# Altium footprint library WR-RAST.PcbLib: 34 footprints (part 1 of 3)
Each footprint in its own frame and in the unit in brackets; x right, y up, seen from the top. Pads: shape width x height; smd on the part's side, far side on the other; paste and mask are expansions set on the pad; w line width, h text height; cw(c..) or ccw(c..) is an arc to the next point about the centre after c.
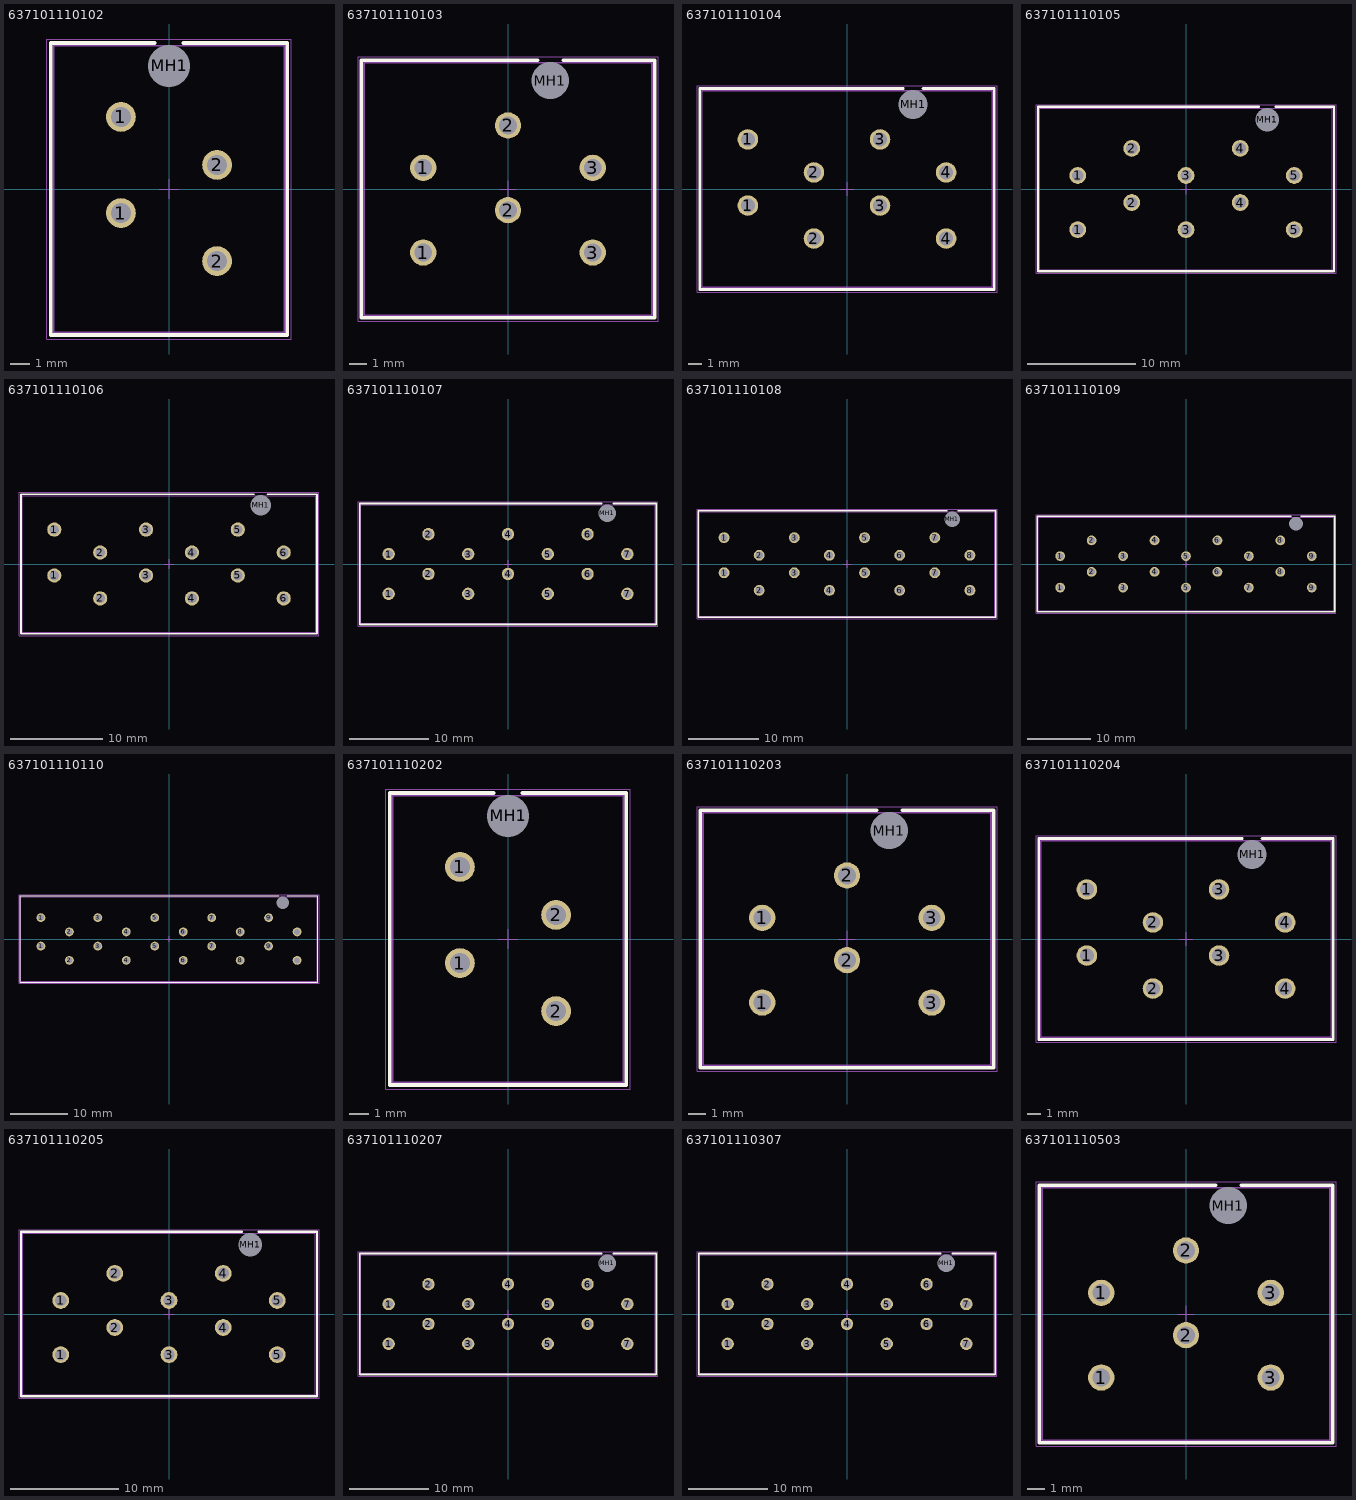
[diagram p0: the footprints below, top view; thin cyan lines are the x and y axes]

## 637101110102 [mm] "THT Vertical Male Header, pitch 5mm, 2p"
height 12.8
pads (5):
  round 1.55 hole 1.05: 1(-2.5,-1.25) 1(-2.5,3.75) 2(2.5,-3.75) 2(2.5,1.25)
  round 2 hole 2.2 unplated: MH1(0,6.4)
Top Overlay:
  lines w0.2: -0.75,7.6 -6.15,7.6 -6.15,-7.6 6.15,-7.6 6.15,7.6 0.75,7.6
Top Component Outline:
  lines w0.1: -6,-7.45 -6,7.45 6,7.45 6,-7.45 -6,-7.45
Top Courtyard:
  lines w0.05: -6.35,-7.8 -6.35,7.8 6.35,7.8 6.35,-7.8 -6.35,-7.8
Top Component Center:
  lines w0.05: -0.5,0 0.5,0 ; 0,-0.5 0,0.5
Top Designator (Mech19):
  text ".Designator" at -7.498,-0.5 h1.5
3D body "637101110102.stp": height 12.85, standoff -3.55, extent -6,-7.45 6,7.45

## 637101110103 [mm] "THT Vertical Male Header, pitch 5mm, 3p"
height 12.8
pads (7):
  round 1.55 hole 1.05: 1(-5,-3.75) 1(-5,1.25) 2(0,-1.25) 2(0,3.75) 3(5,-3.75) 3(5,1.25)
  round 2 hole 2.2 unplated: MH1(2.5,6.4)
Top Overlay:
  lines w0.2: 1.75,7.6 -8.65,7.6 -8.65,-7.6 8.65,-7.6 8.65,7.6 3.25,7.6
Top Component Outline:
  lines w0.1: -8.5,-7.45 8.5,-7.45 8.5,7.45 -8.5,7.45 -8.5,-7.45
Top Courtyard:
  lines w0.05: -8.85,-7.8 8.85,-7.8 8.85,7.8 -8.85,7.8 -8.85,-7.8
Top Component Center:
  lines w0.05: -0.5,0 0.5,0 ; 0,-0.5 0,0.5
Top Designator (Mech19):
  text ".Designator" at -7.498,-0.5 h1.5
3D body "637101110103.stp": height 12.85, standoff -3.55, extent -8.5,-7.45 8.5,7.45

## 637101110104 [mm] "THT Vertical Male Header, pitch 5mm, 4p"
height 12.8
pads (9):
  round 1.55 hole 1.05: 1(-7.5,-1.25) 1(-7.5,3.75) 2(-2.5,-3.75) 2(-2.5,1.25) 3(2.5,-1.25) 3(2.5,3.75) 4(7.5,-3.75) 4(7.5,1.25)
  round 2 hole 2.2 unplated: MH1(5,6.4)
Top Overlay:
  lines w0.2: 4.25,7.6 -11.15,7.6 -11.15,-7.6 11.15,-7.6 11.15,7.6 5.75,7.6
Top Component Outline:
  lines w0.1: -11,-7.45 11,-7.45 11,7.45 -11,7.45 -11,-7.45
Top Courtyard:
  lines w0.05: -11.35,-7.8 11.35,-7.8 11.35,7.8 -11.35,7.8 -11.35,-7.8
Top Component Center:
  lines w0.05: -0.5,0 0.5,0 ; 0,-0.5 0,0.5
Top Designator (Mech19):
  text ".Designator" at -7.498,-0.5 h1.5
3D body "637101110104.stp": height 12.85, standoff -3.55, extent -11,-7.45 11,7.45

## 637101110105 [mm] "THT Vertical Male Header, pitch 5mm, 5p"
height 12.8
pads (11):
  round 1.55 hole 1.05: 1(-10,-3.75) 1(-10,1.25) 2(-5,-1.25) 2(-5,3.75) 3(0,-3.75) 3(0,1.25) 4(5,-1.25) 4(5,3.75) 5(10,-3.75) 5(10,1.25)
  round 2 hole 2.2 unplated: MH1(7.5,6.4)
Top Overlay:
  lines w0.2: 6.75,7.6 -13.65,7.6 -13.65,-7.6 13.65,-7.6 13.65,7.6 8.25,7.6
Top Component Outline:
  lines w0.1: -13.5,-7.45 13.5,-7.45 13.5,7.45 -13.5,7.45 -13.5,-7.45
Top Courtyard:
  lines w0.05: -13.85,-7.8 13.85,-7.8 13.85,7.8 -13.85,7.8 -13.85,-7.8
Top Component Center:
  lines w0.05: -0.5,0 0.5,0 ; 0,-0.5 0,0.5
Top Designator (Mech19):
  text ".Designator" at -7.498,-0.5 h1.5
3D body "637101110105.stp": height 12.85, standoff -3.55, extent -13.5,-7.45 13.5,7.45

## 637101110106 [mm] "THT Vertical Male Header, pitch 5mm, 6p"
height 12.8
pads (13):
  round 1.55 hole 1.05: 1(-12.5,-1.25) 1(-12.5,3.75) 2(-7.5,-3.75) 2(-7.5,1.25) 3(-2.5,-1.25) 3(-2.5,3.75) 4(2.5,-3.75) 4(2.5,1.25) 5(7.5,-1.25) 5(7.5,3.75) 6(12.5,-3.75) 6(12.5,1.25)
  round 2 hole 2.2 unplated: MH1(10,6.4)
Top Overlay:
  lines w0.2: 9.25,7.6 -16.15,7.6 -16.15,-7.6 16.15,-7.6 16.15,7.6 10.75,7.6
Top Component Outline:
  lines w0.1: -16,-7.45 -16,7.45 16,7.45 16,-7.45 -16,-7.45
Top Courtyard:
  lines w0.05: -16.35,-7.8 -16.35,7.8 16.35,7.8 16.35,-7.8 -16.35,-7.8
Top Component Center:
  lines w0.05: -0.5,0 0.5,0 ; 0,-0.5 0,0.5
Top Designator (Mech19):
  text ".Designator" at -7.498,-0.5 h1.5
3D body "637101110106.stp": height 12.85, standoff -3.55, extent -16,-7.45 16,7.45

## 637101110107 [mm] "THT Vertical Male Header, pitch 5mm, 7p"
height 12.8
pads (15):
  round 1.55 hole 1.05: 1(-15,-3.75) 1(-15,1.25) 2(-10,-1.25) 2(-10,3.75) 3(-5,-3.75) 3(-5,1.25) 4(0,-1.25) 4(0,3.75) 5(5,-3.75) 5(5,1.25) 6(10,-1.25) 6(10,3.75) 7(15,-3.75) 7(15,1.25)
  round 2 hole 2.2 unplated: MH1(12.5,6.4)
Top Overlay:
  lines w0.2: 11.75,7.6 -18.65,7.6 -18.65,-7.6 18.65,-7.6 18.65,7.6 13.25,7.6
Top Component Outline:
  lines w0.1: -18.5,-7.45 -18.5,7.45 18.5,7.45 18.5,-7.45 -18.5,-7.45
Top Courtyard:
  lines w0.05: -18.85,-7.8 18.85,-7.8 18.85,7.8 -18.85,7.8 -18.85,-7.8
Top Component Center:
  lines w0.05: -0.5,0 0.5,0 ; 0,-0.5 0,0.5
Top Designator (Mech19):
  text ".Designator" at -7.498,-0.5 h1.5
3D body "637101110107.stp": height 12.85, standoff -3.55, extent -18.5,-7.45 18.5,7.45

## 637101110108 [mm] "THT Vertical Male Header, pitch 5mm, 8p"
height 12.8
pads (17):
  round 1.55 hole 1.05: 1(-17.5,-1.25) 1(-17.5,3.75) 2(-12.5,-3.75) 2(-12.5,1.25) 3(-7.5,-1.25) 3(-7.5,3.75) 4(-2.5,-3.75) 4(-2.5,1.25) 5(2.5,-1.25) 5(2.5,3.75) 6(7.5,-3.75) 6(7.5,1.25) 7(12.5,-1.25) 7(12.5,3.75) 8(17.5,-3.75) 8(17.5,1.25)
  round 2 hole 2.2 unplated: MH1(15,6.4)
Top Overlay:
  lines w0.2: 14.25,7.6 -21.15,7.6 -21.15,-7.6 21.15,-7.6 21.15,7.6 15.75,7.6
Top Component Outline:
  lines w0.1: -21,-7.45 -21,7.45 21,7.45 21,-7.45 -21,-7.45
Top Courtyard:
  lines w0.05: -21.35,-7.8 -21.35,7.8 21.35,7.8 21.35,-7.8 -21.35,-7.8
Top Component Center:
  lines w0.05: -0.5,0 0.5,0 ; 0,-0.5 0,0.5
Top Designator (Mech19):
  text ".Designator" at -7.498,-0.5 h1.5
3D body "637101110108.stp": height 12.85, standoff -3.55, extent -21,-7.45 21,7.45

## 637101110109 [mm] "THT Vertical Male Header, pitch 5mm, 9p"
height 12.8
pads (19):
  round 1.55 hole 1.05: 1(-20,-3.75) 1(-20,1.25) 2(-15,-1.25) 2(-15,3.75) 3(-10,-3.75) 3(-10,1.25) 4(-5,-1.25) 4(-5,3.75) 5(0,-3.75) 5(0,1.25) 6(5,-1.25) 6(5,3.75) 7(10,-3.75) 7(10,1.25) 8(15,-1.25) 8(15,3.75) 9(20,-3.75) 9(20,1.25)
  round 2 hole 2.2 unplated: MH1(17.5,6.4)
Top Overlay:
  lines w0.2: 16.75,7.6 -23.65,7.6 -23.65,-7.6 23.65,-7.6 23.65,7.6 18.25,7.6
Top Component Outline:
  lines w0.1: -23.5,-7.45 23.5,-7.45 23.5,7.45 -23.5,7.45 -23.5,-7.45
Top Courtyard:
  lines w0.05: -23.85,-7.8 -23.85,7.8 23.85,7.8 23.85,-7.8 -23.85,-7.8
Top Component Center:
  lines w0.05: -0.5,0 0.5,0 ; 0,-0.5 0,0.5
Top Designator (Mech19):
  text ".Designator" at -7.498,-0.5 h1.5
3D body "637101110109.stp": height 12.85, standoff -3.55, extent -23.5,-7.45 23.5,7.45

## 637101110110 [mm] "THT Vertical Male Header, pitch 5mm, 10p"
height 12.8
pads (21):
  round 1.55 hole 1.05: 1(-22.5,-1.25) 1(-22.5,3.75) 2(-17.5,-3.75) 2(-17.5,1.25) 3(-12.5,-1.25) 3(-12.5,3.75) 4(-7.5,-3.75) 4(-7.5,1.25) 5(-2.5,-1.25) 5(-2.5,3.75) 6(2.5,-3.75) 6(2.5,1.25) 7(7.5,-1.25) 7(7.5,3.75) 8(12.5,-3.75) 8(12.5,1.25) 9(17.5,-1.25) 9(17.5,3.75) 10(22.5,-3.75) 10(22.5,1.25)
  round 2 hole 2.2 unplated: MH1(20,6.4)
Top Overlay:
  lines w0.2: 19.25,7.6 -26.15,7.6 -26.15,-7.6 26.15,-7.6 26.15,7.6 20.75,7.6
Top Component Outline:
  lines w0.1: -26,-7.45 -26,7.45 26,7.45 26,-7.45 -26,-7.45
Top Courtyard:
  lines w0.05: -26.35,-7.8 -26.35,7.8 26.35,7.8 26.35,-7.8 -26.35,-7.8
Top Component Center:
  lines w0.05: -0.5,0 0.5,0 ; 0,-0.5 0,0.5
Top Designator (Mech19):
  text ".Designator" at -7.498,-0.5 h1.5
3D body "637101110110.stp": height 12.85, standoff -3.55, extent -26,-7.45 26,7.45

## 637101110202 [mm] "THT Vertical Male Header, pitch 5mm, 2p"
height 12.8
pads (5):
  round 1.55 hole 1.05: 1(-2.5,-1.25) 1(-2.5,3.75) 2(2.5,-3.75) 2(2.5,1.25)
  round 2 hole 2.2 unplated: MH1(0,6.4)
Top Overlay:
  lines w0.2: -0.75,7.6 -6.15,7.6 -6.15,-7.6 6.15,-7.6 6.15,7.6 0.75,7.6
Top Component Outline:
  lines w0.1: -6,-7.45 6,-7.45 6,7.45 -6,7.45 -6,-7.45
Top Courtyard:
  lines w0.05: -6.35,-7.8 6.35,-7.8 6.35,7.8 -6.35,7.8 -6.35,-7.8
Top Component Center:
  lines w0.05: -0.5,0 0.5,0 ; 0,-0.5 0,0.5
Top Designator (Mech19):
  text ".Designator" at -7.498,-0.5 h1.5
3D body "637101110202.stp": height 12.85, standoff -3.55, extent -6,-7.45 6,7.45

## 637101110203 [mm] "THT Vertical Male Header, pitch 5mm, 3p"
height 12.8
pads (7):
  round 1.55 hole 1.05: 1(-5,-3.75) 1(-5,1.25) 2(0,-1.25) 2(0,3.75) 3(5,-3.75) 3(5,1.25)
  round 2 hole 2.2 unplated: MH1(2.5,6.4)
Top Overlay:
  lines w0.2: 1.75,7.6 -8.65,7.6 -8.65,-7.6 8.65,-7.6 8.65,7.6 3.25,7.6
Top Component Outline:
  lines w0.1: -8.5,-7.45 8.5,-7.45 8.5,7.45 -8.5,7.45 -8.5,-7.45
Top Courtyard:
  lines w0.05: -8.85,-7.8 8.85,-7.8 8.85,7.8 -8.85,7.8 -8.85,-7.8
Top Component Center:
  lines w0.05: -0.5,0 0.5,0 ; 0,-0.5 0,0.5
Top Designator (Mech19):
  text ".Designator" at -7.498,-0.5 h1.5
3D body "637101110203.stp": height 12.85, standoff -3.55, extent -8.5,-7.45 8.5,7.45

## 637101110204 [mm] "THT Vertical Male Header, pitch 5mm, 4p"
height 12.8
pads (9):
  round 1.55 hole 1.05: 1(-7.5,-1.25) 1(-7.5,3.75) 2(-2.5,-3.75) 2(-2.5,1.25) 3(2.5,-1.25) 3(2.5,3.75) 4(7.5,-3.75) 4(7.5,1.25)
  round 2 hole 2.2 unplated: MH1(5,6.4)
Top Overlay:
  lines w0.2: 4.25,7.6 -11.15,7.6 -11.15,-7.6 11.15,-7.6 11.15,7.6 5.75,7.6
Top Component Outline:
  lines w0.1: -11,-7.45 -11,7.45 11,7.45 11,-7.45 -11,-7.45
Top Courtyard:
  lines w0.05: -11.35,-7.8 -11.35,7.8 11.35,7.8 11.35,-7.8 -11.35,-7.8
Top Component Center:
  lines w0.05: -0.5,0 0.5,0 ; 0,-0.5 0,0.5
Top Designator (Mech19):
  text ".Designator" at -7.498,-0.5 h1.5
3D body "637101110204.stp": height 12.85, standoff -3.55, extent -11,-7.45 11,7.45

## 637101110205 [mm] "THT Vertical Male Header, pitch 5mm, 5p"
height 12.8
pads (11):
  round 1.55 hole 1.05: 1(-10,-3.75) 1(-10,1.25) 2(-5,-1.25) 2(-5,3.75) 3(0,-3.75) 3(0,1.25) 4(5,-1.25) 4(5,3.75) 5(10,-3.75) 5(10,1.25)
  round 2 hole 2.2 unplated: MH1(7.5,6.4)
Top Overlay:
  lines w0.2: 6.75,7.6 -13.65,7.6 -13.65,-7.6 13.65,-7.6 13.65,7.6 8.25,7.6
Top Component Outline:
  lines w0.1: -13.5,-7.45 -13.5,7.45 13.5,7.45 13.5,-7.45 -13.5,-7.45
Top Courtyard:
  lines w0.05: -13.85,-7.8 -13.85,7.8 13.85,7.8 13.85,-7.8 -13.85,-7.8
Top Component Center:
  lines w0.05: -0.5,0 0.5,0 ; 0,-0.5 0,0.5
Top Designator (Mech19):
  text ".Designator" at -7.498,-0.5 h1.5
3D body "637101110205.stp": height 12.85, standoff -3.55, extent -13.5,-7.45 13.5,7.45

## 637101110207 [mm] "THT Vertical Male Header, pitch 5mm, 7p"
height 12.8
pads (15):
  round 1.55 hole 1.05: 1(-15,-3.75) 1(-15,1.25) 2(-10,-1.25) 2(-10,3.75) 3(-5,-3.75) 3(-5,1.25) 4(0,-1.25) 4(0,3.75) 5(5,-3.75) 5(5,1.25) 6(10,-1.25) 6(10,3.75) 7(15,-3.75) 7(15,1.25)
  round 2 hole 2.2 unplated: MH1(12.5,6.4)
Top Overlay:
  lines w0.2: 11.75,7.6 -18.65,7.6 -18.65,-7.6 18.65,-7.6 18.65,7.6 13.25,7.6
Top Component Outline:
  lines w0.1: -18.5,-7.45 -18.5,7.45 18.5,7.45 18.5,-7.45 -18.5,-7.45
Top Courtyard:
  lines w0.05: -18.85,-7.8 18.85,-7.8 18.85,7.8 -18.85,7.8 -18.85,-7.8
Top Component Center:
  lines w0.05: -0.5,0 0.5,0 ; 0,-0.5 0,0.5
Top Designator (Mech19):
  text ".Designator" at -7.498,-0.5 h1.5
3D body "637101110207.stp": height 12.85, standoff -3.55, extent -18.5,-7.45 18.5,7.45

## 637101110307 [mm] "THT Vertical Male Header, pitch 5mm, 7p"
height 12.8
pads (15):
  round 1.55 hole 1.05: 1(-15,-3.75) 1(-15,1.25) 2(-10,-1.25) 2(-10,3.75) 3(-5,-3.75) 3(-5,1.25) 4(0,-1.25) 4(0,3.75) 5(5,-3.75) 5(5,1.25) 6(10,-1.25) 6(10,3.75) 7(15,-3.75) 7(15,1.25)
  round 2 hole 2.2 unplated: MH1(12.5,6.4)
Top Overlay:
  lines w0.2: 11.75,7.6 -18.65,7.6 -18.65,-7.6 18.65,-7.6 18.65,7.6 13.25,7.6
Top Component Outline:
  lines w0.1: -18.5,-7.45 -18.5,7.45 18.5,7.45 18.5,-7.45 -18.5,-7.45
Top Courtyard:
  lines w0.05: -18.85,-7.8 18.85,-7.8 18.85,7.8 -18.85,7.8 -18.85,-7.8
Top Component Center:
  lines w0.05: -0.5,0 0.5,0 ; 0,-0.5 0,0.5
Top Designator (Mech19):
  text ".Designator" at -7.498,-0.5 h1.5
3D body "637101110307.stp": height 12.85, standoff -3.55, extent -18.5,-7.45 18.5,7.45

## 637101110503 [mm] "THT Vertical Male Header, pitch 5mm, 3p"
height 12.8
pads (7):
  round 1.55 hole 1.05: 1(-5,-3.75) 1(-5,1.25) 2(0,-1.25) 2(0,3.75) 3(5,-3.75) 3(5,1.25)
  round 2 hole 2.2 unplated: MH1(2.5,6.4)
Top Overlay:
  lines w0.2: 1.75,7.6 -8.65,7.6 -8.65,-7.6 8.65,-7.6 8.65,7.6 3.25,7.6
Top Component Outline:
  lines w0.1: -8.5,-7.45 -8.5,7.45 8.5,7.45 8.5,-7.45 -8.5,-7.45
Top Courtyard:
  lines w0.05: -8.85,-7.8 -8.85,7.8 8.85,7.8 8.85,-7.8 -8.85,-7.8
Top Component Center:
  lines w0.05: -0.5,0 0.5,0 ; 0,-0.5 0,0.5
Top Designator (Mech19):
  text ".Designator" at -7.498,-0.5 h1.5
3D body "637101110503.stp": height 12.85, standoff -3.55, extent -8.5,-7.45 8.5,7.45